# Altium schematic symbol library SL_Speakers.SchLib: 2 symbols
Pins are listed as number, name and electrical type; pins without a type are passive.

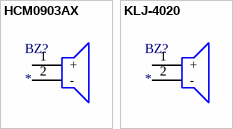
[diagram p0: symbols HCM0903AX to KLJ-4020]

## HCM0903AX
designator BZ?
Sound generator, 3V, 82dB, 3.2kHz; Manufacturer_Name: BeStar Electronics; Manufacturer_Part_Number: HCM0903AX; Datasheet Link: https://www.arrow.com/en/products/hcm0903ax/bestar-technologies; Height: 6mm; Arrow Part Number: HCM0903AX; Arrow Price/Stock: https://www.arrow.com/en/products/hcm0903ax/bestar-technologies
footprint HCM0903AX
pins: 1 +, 2 -

## KLJ-4020
designator BZ?
Buzzer, 2-4V, 73dB, 4kHz; Manufacturer_Name: KELIKING; Datasheet Link: https://datasheet.lcsc.com/szlcsc/2005191833_KELIKING-KLJ-4020_C556936.pdf; Height: 2.3mm; Manufacturer_Part_Number: KLJ-4020
footprint KLJ4020
pins: 1 +, 2 -